# Altium schematic symbol library CHESSOBC_rev1.SCHLIB: 28 symbols
Pins are listed as number, name and electrical type; pins without a type are passive.

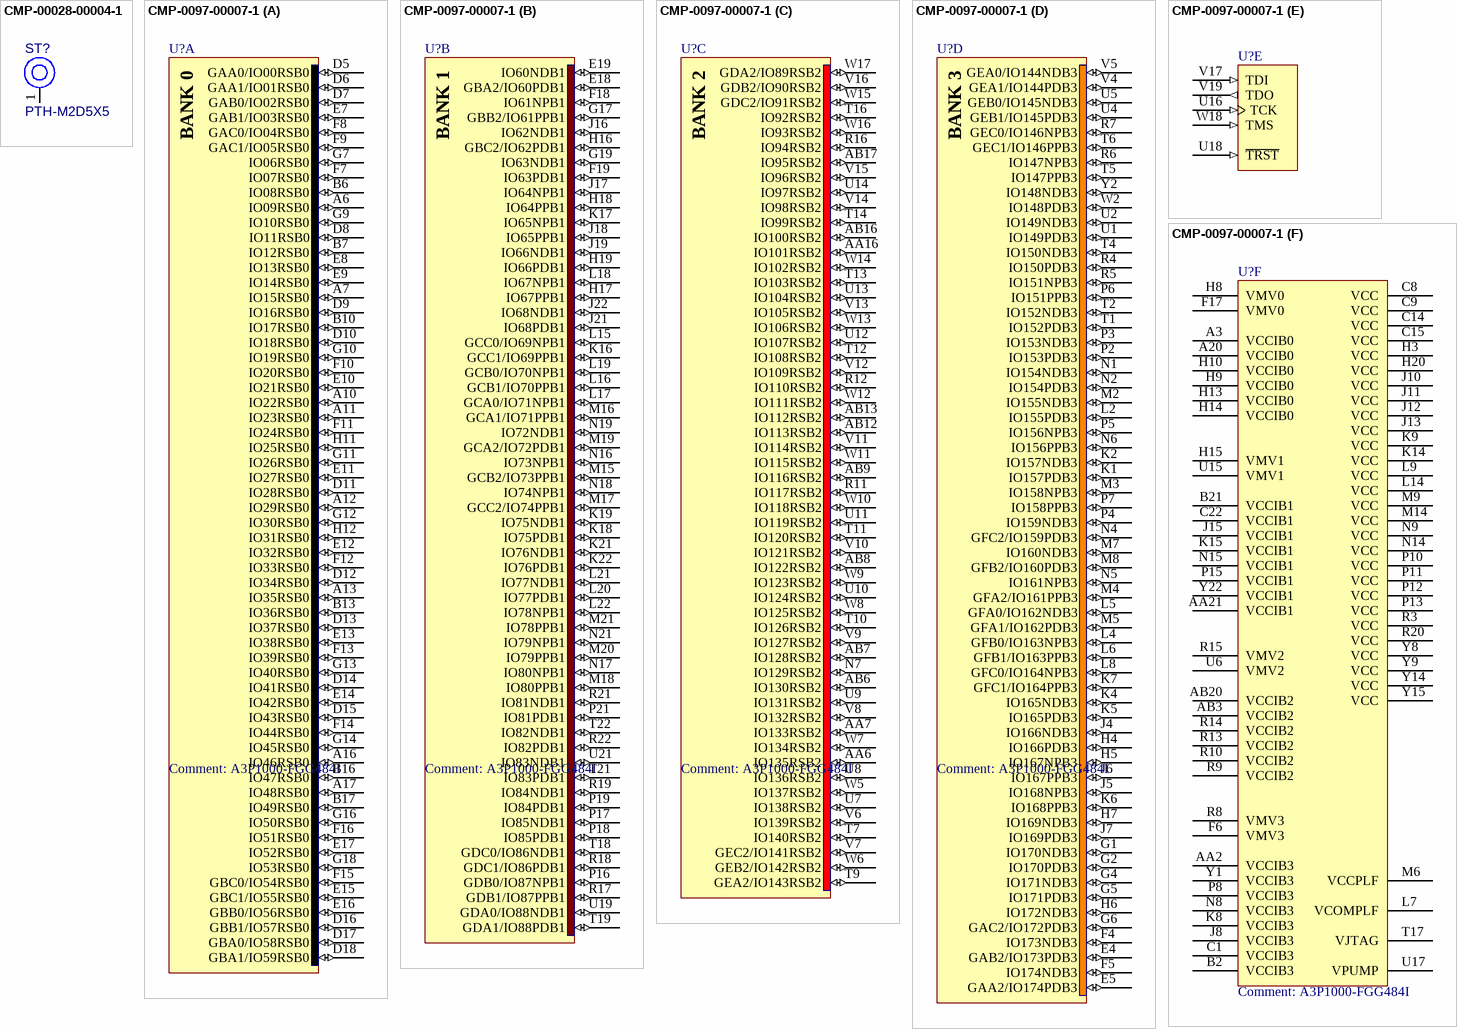
[diagram p0: symbols CMP-00028-00004-1 to CMP-0097-00007-1]

## CMP-00028-00004-1
designator ST?, comment PTH-M2D5X5
M2 PTH (2.5mm), 5mm pad; Pins: 1; Component Type: Mechanical
footprint PTH-M2D5X5
pins: 1 H1

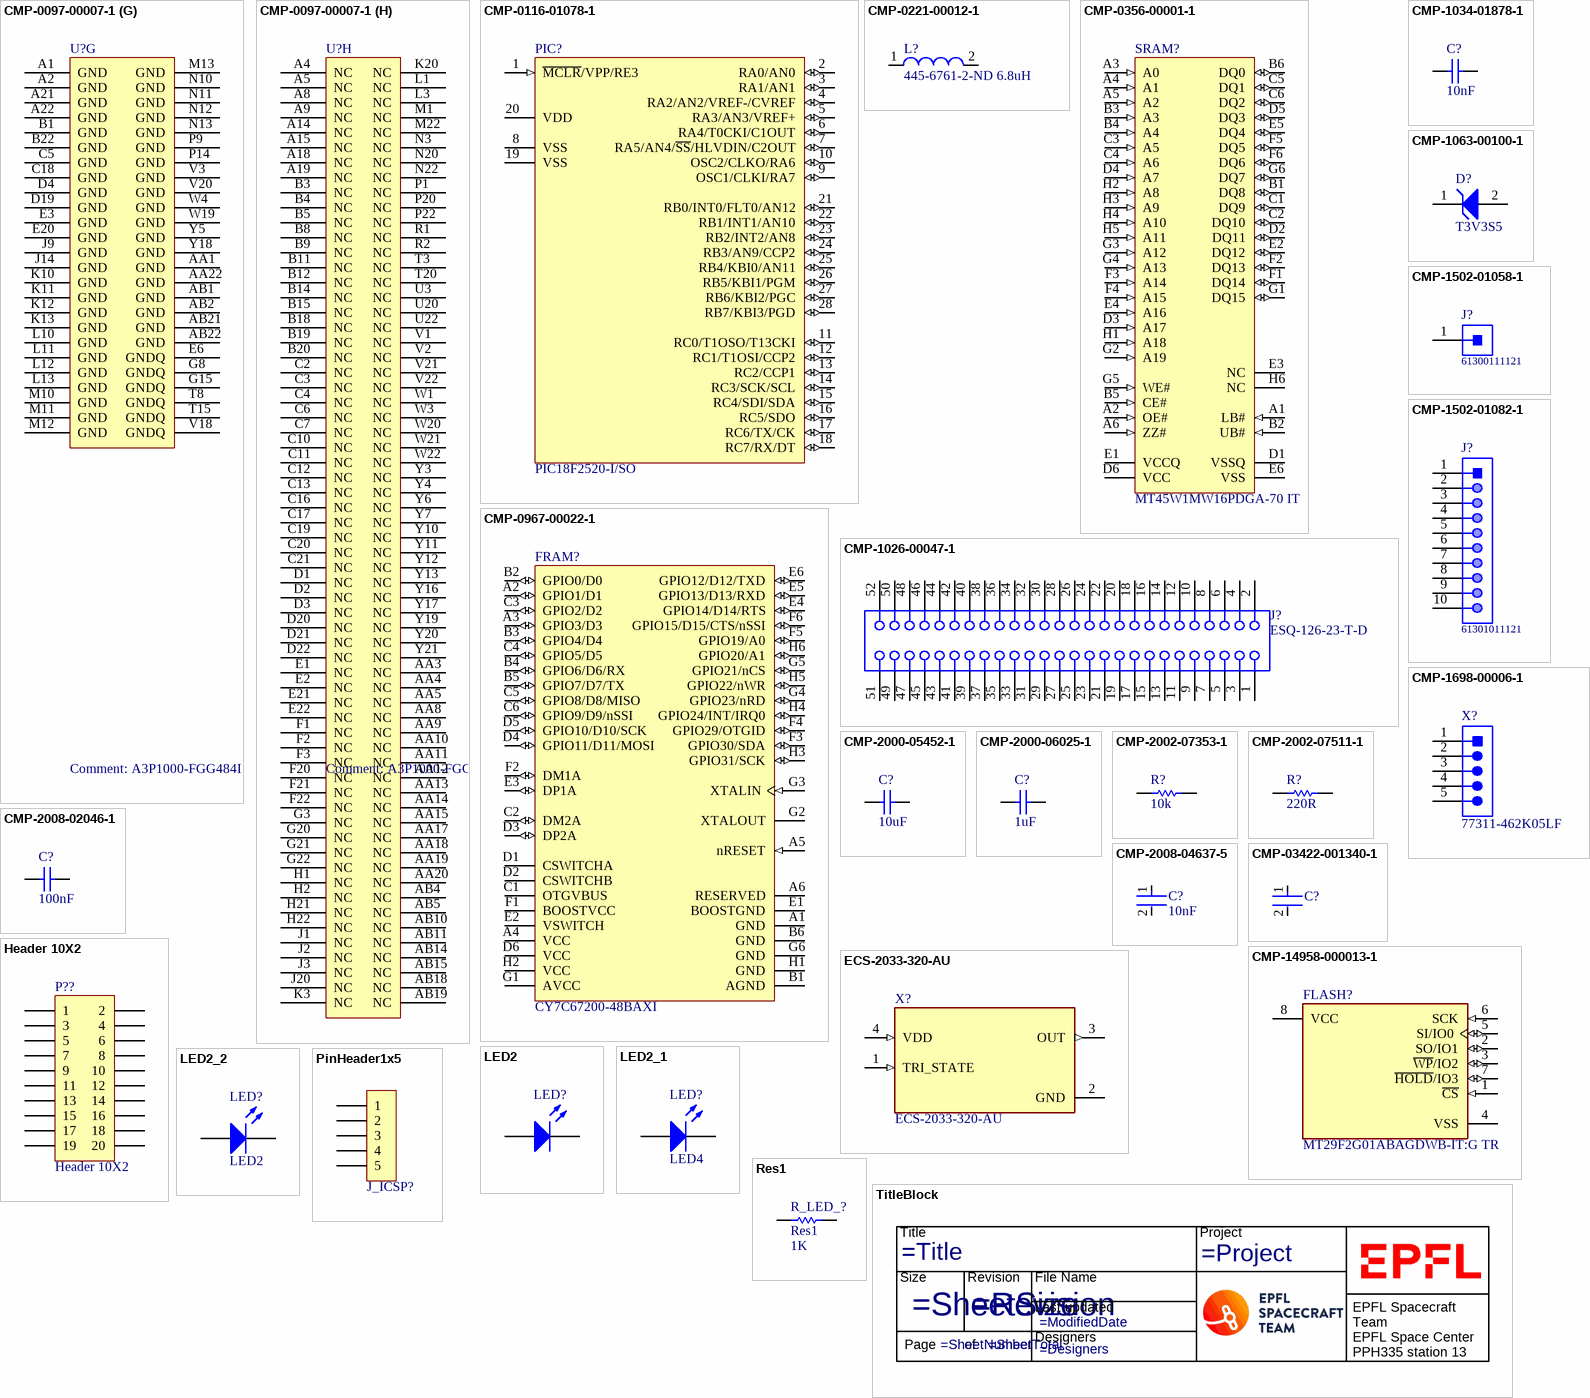
[diagram p1: symbols CMP-0097-00007-1 to TitleBlock]

## CMP-0097-00007-1
designator U?, comment A3P1000-FGG484I
ProASIC3 Flash FPGA, 300 User IOs, 1M System Gates, 484-Ball FBGA; Manufacturer: Actel; Code_JEDEC: MS-034-AAJ-1; PackageDescription: 484-Ball Fine Pitch Plastic Ball Grid Array (FG484) - Fully Populated; DatasheetVersion: v1.3, Oct-2009; PackageReference: FG484; PackageVersion: ver11.2, Nov-2009; Code_IPC: BGA100P22X22-484; Manufacturer Part Number: A3P1000-FGG484I; Supplier 1: Mouser; Supplier Part Number 1: 494-A3P1000-FGG484I
footprint FG484 (BGA, 484-Leads, Body 23x23mm, Pitch 1mm)
part A pins: A6 IO09RSB0 (io), A7 IO15RSB0 (io), A10 IO22RSB0 (io), A11 IO23RSB0 (io), A12 IO29RSB0 (io), A13 IO35RSB0 (io), A16 IO46RSB0 (io), A17 IO48RSB0 (io), B6 IO08RSB0 (io), B7 IO12RSB0 (io), B10 IO17RSB0 (io), B13 IO36RSB0 (io), B16 IO47RSB0 (io), B17 IO49RSB0 (io), D5 GAA0/IO00RSB0 (io), D6 GAA1/IO01RSB0 (io), D7 GAB0/IO02RSB0 (io), D8 IO11RSB0 (io), D9 IO16RSB0 (io), D10 IO18RSB0 (io), D11 IO28RSB0 (io), D12 IO34RSB0 (io), D13 IO37RSB0 (io), D14 IO41RSB0 (io), D15 IO43RSB0 (io), D16 GBB1/IO57RSB0 (io), D17 GBA0/IO58RSB0 (io), D18 GBA1/IO59RSB0 (io), E7 GAB1/IO03RSB0 (io), E8 IO13RSB0 (io), E9 IO14RSB0 (io), E10 IO21RSB0 (io), E11 IO27RSB0 (io), E12 IO32RSB0 (io), E13 IO38RSB0 (io), E14 IO42RSB0 (io), E15 GBC1/IO55RSB0 (io), E16 GBB0/IO56RSB0 (io), E17 IO52RSB0 (io), F7 IO07RSB0 (io), F8 GAC0/IO04RSB0 (io), F9 GAC1/IO05RSB0 (io), F10 IO20RSB0 (io), F11 IO24RSB0 (io), F12 IO33RSB0 (io), F13 IO39RSB0 (io), F14 IO44RSB0 (io), F15 GBC0/IO54RSB0 (io), F16 IO51RSB0 (io), G7 IO06RSB0 (io), G9 IO10RSB0 (io), G10 IO19RSB0 (io), G11 IO26RSB0 (io), G12 IO30RSB0 (io), G13 IO40RSB0 (io), G14 IO45RSB0 (io), G16 IO50RSB0 (io), G18 IO53RSB0 (io), H11 IO25RSB0 (io), H12 IO31RSB0 (io)
part B pins: E18 GBA2/IO60PDB1 (io), E19 IO60NDB1 (io), F18 IO61NPB1 (io), F19 IO63PDB1 (io), G17 GBB2/IO61PPB1 (io), G19 IO63NDB1 (io), H16 GBC2/IO62PDB1 (io), H17 IO67PPB1 (io), H18 IO64PPB1 (io), H19 IO66PDB1 (io), J16 IO62NDB1 (io), J17 IO64NPB1 (io), J18 IO65PPB1 (io), J19 IO66NDB1 (io), J21 IO68PDB1 (io), J22 IO68NDB1 (io), K16 GCC1/IO69PPB1 (io), K17 IO65NPB1 (io), K18 IO75PDB1 (io), K19 IO75NDB1 (io), K21 IO76NDB1 (io), K22 IO76PDB1 (io), L15 GCC0/IO69NPB1 (io), L16 GCB1/IO70PPB1 (io), L17 GCA0/IO71NPB1 (io), L18 IO67NPB1 (io), L19 GCB0/IO70NPB1 (io), L20 IO77PDB1 (io), L21 IO77NDB1 (io), L22 IO78NPB1 (io), M15 GCB2/IO73PPB1 (io), M16 GCA1/IO71PPB1 (io), M17 GCC2/IO74PPB1 (io), M18 IO80PPB1 (io), M19 GCA2/IO72PDB1 (io), M20 IO79PPB1 (io), M21 IO78PPB1 (io), N16 IO73NPB1 (io), N17 IO80NPB1 (io), N18 IO74NPB1 (io), N19 IO72NDB1 (io), N21 IO79NPB1 (io), P16 GDB0/IO87NPB1 (io), P17 IO85NDB1 (io), P18 IO85PDB1 (io), P19 IO84PDB1 (io), P21 IO81PDB1 (io), R17 GDB1/IO87PPB1 (io), R18 GDC1/IO86PDB1 (io), R19 IO84NDB1 (io), R21 IO81NDB1 (io), R22 IO82PDB1 (io), T18 GDC0/IO86NDB1 (io), T19 GDA1/IO88PDB1 (io), T21 IO83PDB1 (io), T22 IO82NDB1 (io), U19 GDA0/IO88NDB1 (io), U21 IO83NDB1 (io)
part C pins: AA6 IO135RSB2 (io), AA7 IO133RSB2 (io), AA16 IO101RSB2 (io), AB6 IO130RSB2 (io), AB7 IO128RSB2 (io), AB8 IO122RSB2 (io), AB9 IO116RSB2 (io), AB12 IO113RSB2 (io), AB13 IO112RSB2 (io), AB16 IO100RSB2 (io), AB17 IO95RSB2 (io), N7 IO129RSB2 (io), R11 IO117RSB2 (io), R12 IO110RSB2 (io), R16 IO94RSB2 (io), T7 IO140RSB2 (io), T9 GEA2/IO143RSB2 (io), T10 IO126RSB2 (io), T11 IO120RSB2 (io), T12 IO108RSB2 (io), T13 IO103RSB2 (io), T14 IO99RSB2 (io), T16 IO92RSB2 (io), U7 IO138RSB2 (io), U8 IO136RSB2 (io), U9 IO131RSB2 (io), U10 IO124RSB2 (io), U11 IO119RSB2 (io), U12 IO107RSB2 (io), U13 IO104RSB2 (io), U14 IO97RSB2 (io), V6 IO139RSB2 (io), V7 GEC2/IO141RSB2 (io), V8 IO132RSB2 (io), V9 IO127RSB2 (io), V10 IO121RSB2 (io), V11 IO114RSB2 (io), V12 IO109RSB2 (io), V13 IO105RSB2 (io), V14 IO98RSB2 (io), V15 IO96RSB2 (io), V16 GDB2/IO90RSB2 (io), W5 IO137RSB2 (io), W6 GEB2/IO142RSB2 (io), W7 IO134RSB2 (io), W8 IO125RSB2 (io), W9 IO123RSB2 (io), W10 IO118RSB2 (io), W11 IO115RSB2 (io), W12 IO111RSB2 (io), W13 IO106RSB2 (io), W14 IO102RSB2 (io), W15 GDC2/IO91RSB2 (io), W16 IO93RSB2 (io), W17 GDA2/IO89RSB2 (io)
part D pins: E4 GAB2/IO173PDB3 (io), E5 GAA2/IO174PDB3 (io), F4 IO173NDB3 (io), F5 IO174NDB3 (io), G1 IO170NDB3 (io), G2 IO170PDB3 (io), G4 IO171NDB3 (io), G5 IO171PDB3 (io), G6 GAC2/IO172PDB3 (io), H4 IO166PDB3 (io), H5 IO167NPB3 (io), H6 IO172NDB3 (io), H7 IO169NDB3 (io), J4 IO166NDB3 (io), J5 IO168NPB3 (io), J6 IO167PPB3 (io), J7 IO169PDB3 (io), K1 IO157PDB3 (io), K2 IO157NDB3 (io), K4 IO165NDB3 (io), K5 IO165PDB3 (io), K6 IO168PPB3 (io), K7 GFC1/IO164PPB3 (io), L2 IO155PDB3 (io), L4 GFB0/IO163NPB3 (io), L5 GFA0/IO162NDB3 (io), L6 GFB1/IO163PPB3 (io), L8 GFC0/IO164NPB3 (io), M2 IO155NDB3 (io), M3 IO158NPB3 (io), M4 GFA2/IO161PPB3 (io), M5 GFA1/IO162PDB3 (io), M7 IO160NDB3 (io), M8 GFB2/IO160PDB3 (io), N1 IO154NDB3 (io), N2 IO154PDB3 (io), N4 GFC2/IO159PDB3 (io), N5 IO161NPB3 (io), N6 IO156PPB3 (io), P2 IO153PDB3 (io), P3 IO153NDB3 (io), P4 IO159NDB3 (io), P5 IO156NPB3 (io), P6 IO151PPB3 (io), P7 IO158PPB3 (io), R4 IO150PDB3 (io), R5 IO151NPB3 (io), R6 IO147NPB3 (io), R7 GEC0/IO146NPB3 (io), T1 IO152PDB3 (io), T2 IO152NDB3 (io), T4 IO150NDB3 (io), T5 IO147PPB3 (io), T6 GEC1/IO146PPB3 (io), U1 IO149PDB3 (io), U2 IO149NDB3 (io), U4 GEB1/IO145PDB3 (io), U5 GEB0/IO145NDB3 (io), V4 GEA1/IO144PDB3 (io), V5 GEA0/IO144NDB3 (io), W2 IO148PDB3 (io), Y2 IO148NDB3 (io)
part E pins: U16 TCK (in), U18 ~{TRST} (in), V17 TDI (in), V19 TDO (out), W18 TMS (in)
part F pins: A3 VCCIB0 (power), A20 VCCIB0 (power), AA2 VCCIB3 (power), AA21 VCCIB1 (power), AB3 VCCIB2 (power), AB20 VCCIB2 (power), B2 VCCIB3 (power), B21 VCCIB1 (power), C1 VCCIB3 (power), C8 VCC (power), C9 VCC (power), C14 VCC (power), C15 VCC (power), C22 VCCIB1 (power), F6 VMV3 (power), F17 VMV0 (power), H3 VCC (power), H8 VMV0 (power), H9 VCCIB0 (power), H10 VCCIB0 (power), H13 VCCIB0 (power), H14 VCCIB0 (power), H15 VMV1 (power), H20 VCC (power), J8 VCCIB3 (power), J10 VCC (power), J11 VCC (power), J12 VCC (power), J13 VCC (power), J15 VCCIB1 (power), K8 VCCIB3 (power), K9 VCC (power), K14 VCC (power), K15 VCCIB1 (power), L7 VCOMPLF (power), L9 VCC (power), L14 VCC (power), M6 VCCPLF (power), M9 VCC (power), M14 VCC (power), N8 VCCIB3 (power), N9 VCC (power), N14 VCC (power), N15 VCCIB1 (power), P8 VCCIB3 (power), P10 VCC (power), P11 VCC (power), P12 VCC (power), P13 VCC (power), P15 VCCIB1 (power), R3 VCC (power), R8 VMV3 (power), R9 VCCIB2 (power), R10 VCCIB2 (power), R13 VCCIB2 (power), R14 VCCIB2 (power), R15 VMV2 (power), R20 VCC (power), T17 VJTAG (power), U6 VMV2 (power), U15 VMV1 (power), U17 VPUMP (power), Y1 VCCIB3 (power), Y8 VCC (power), Y9 VCC (power), Y14 VCC (power), Y15 VCC (power), Y22 VCCIB1 (power)
part G pins: A1 GND (power), A2 GND (power), A21 GND (power), A22 GND (power), AA1 GND (power), AA22 GND (power), AB1 GND (power), AB2 GND (power), AB21 GND (power), AB22 GND (power), B1 GND (power), B22 GND (power), C5 GND (power), C18 GND (power), D4 GND (power), D19 GND (power), E3 GND (power), E6 GNDQ (power), E20 GND (power), G8 GNDQ (power), G15 GNDQ (power), J9 GND (power), J14 GND (power), K10 GND (power), K11 GND (power), K12 GND (power), K13 GND (power), L10 GND (power), L11 GND (power), L12 GND (power), L13 GND (power), M10 GND (power), M11 GND (power), M12 GND (power), M13 GND (power), N10 GND (power), N11 GND (power), N12 GND (power), N13 GND (power), P9 GND (power), P14 GND (power), T8 GNDQ (power), T15 GNDQ (power), V3 GND (power), V18 GNDQ (power), V20 GND (power), W4 GND (power), W19 GND (power), Y5 GND (power), Y18 GND (power)
part H pins: A4 NC, A5 NC, A8 NC, A9 NC, A14 NC, A15 NC, A18 NC, A19 NC, AA3 NC, AA4 NC, AA5 NC, AA8 NC, AA9 NC, AA10 NC, AA11 NC, AA12 NC, AA13 NC, AA14 NC, AA15 NC, AA17 NC, AA18 NC, AA19 NC, AA20 NC, AB4 NC, AB5 NC, AB10 NC, AB11 NC, AB14 NC, AB15 NC, AB18 NC, AB19 NC, B3 NC, B4 NC, B5 NC, B8 NC, B9 NC, B11 NC, B12 NC, B14 NC, B15 NC, B18 NC, B19 NC, B20 NC, C2 NC, C3 NC, C4 NC, C6 NC, C7 NC, C10 NC, C11 NC, C12 NC, C13 NC, C16 NC, C17 NC, C19 NC, C20 NC, C21 NC, D1 NC, D2 NC, D3 NC, D20 NC, D21 NC, D22 NC, E1 NC, E2 NC, E21 NC, E22 NC, F1 NC, F2 NC, F3 NC, F20 NC, F21 NC, F22 NC, G3 NC, G20 NC, G21 NC, G22 NC, H1 NC, H2 NC, H21 NC, H22 NC, J1 NC, J2 NC, J3 NC, J20 NC, K3 NC, K20 NC, L1 NC, L3 NC, M1 NC, M22 NC, N3 NC, N20 NC, N22 NC, P1 NC, P20 NC, P22 NC, R1 NC, R2 NC, T3 NC, T20 NC, U3 NC, U20 NC, U22 NC, V1 NC, V2 NC, V21 NC, V22 NC, W1 NC, W3 NC, W20 NC, W21 NC, W22 NC, Y3 NC, Y4 NC, Y6 NC, Y7 NC, Y10 NC, Y11 NC, Y12 NC, Y13 NC, Y16 NC, Y17 NC, Y19 NC, Y20 NC, Y21 NC
part A text: BANK 0
part B text: BANK 1
part C text: BANK 2
part D text: BANK 3

## CMP-0116-01078-1
designator PIC?, comment PIC18F2520-I/SO
Enhanced Flash Microcontroller with 10-Bit A/D and nanoWatt Technology, 32K Flash, 28-Pin SOIC, Industrial Temperature Range; Manufacturer: Microchip; Code_JEDEC: MS-013; PackageReference: SOIC-SO28; PackageVersion: revBB, Aug-2009; DatasheetVersion: revE, Oct-2008; PackageDescription: 28-Lead Plastic Small Outline (SO) - Wide 7.50mm Body [SOIC]; Manufacturer Part Number: PIC18F2520-I/SO
footprint SOIC-SO28_L (SOIC, 28-Leads, Body 17.9x7.5mm, Pitch 1.27mm, IPC High Density)
footprint SOIC-SO28_M (SOIC, 28-Leads, Body 17.9x7.5mm, Pitch 1.27mm, IPC Low Density)
footprint SOIC-SO28_N (SOIC, 28-Leads, Body 17.9x7.5mm, Pitch 1.27mm, IPC Medium Density)
pins: 1 ~{MCLR}/VPP/RE3 (in), 2 RA0/AN0 (io), 3 RA1/AN1 (io), 4 RA2/AN2/VREF-/CVREF (io), 5 RA3/AN3/VREF+ (io), 6 RA4/T0CKI/C1OUT (io), 7 RA5/AN4/~{SS}/HLVDIN/C2OUT (io), 8 VSS (power), 9 OSC1/CLKI/RA7 (io), 10 OSC2/CLKO/RA6 (io), 11 RC0/T1OSO/T13CKI (io), 12 RC1/T1OSI/CCP2 (io), 13 RC2/CCP1 (io), 14 RC3/SCK/SCL (io), 15 RC4/SDI/SDA (io), 16 RC5/SDO (io), 17 RC6/TX/CK (io), 18 RC7/RX/DT (io), 19 VSS (power), 20 VDD (power), 21 RB0/INT0/FLT0/AN12 (io), 22 RB1/INT1/AN10 (io), 23 RB2/INT2/AN8 (io), 24 RB3/AN9/CCP2 (io), 25 RB4/KBI0/AN11 (io), 26 RB5/KBI1/PGM (io), 27 RB6/KBI2/PGC (io), 28 RB7/KBI3/PGD (io)

## CMP-0221-00012-1
designator L?, comment 445-6761-2-ND 6.8uH
SMD-Multilayer Inductor WE-MI, L = 1.00 µH; Manufacturer: Wurth Electronics; Manufacturer Part Number: 7447905; Inductance: 1.00 ÂµH; ComponentLink2URL: http://www.we-online.de/katalog/media/pdf/7447905.pdf; ComponentLink1Description: Manufacturer Link; ComponentLink2Description: Datasheet; DatasheetVersion: ver 4, Oct-2004; PackageVersion: 2005; PackageReference: SMD-0805; ComponentLink1URL: http://www.we-online.com; PackageDescription: Chip Inductor, 2-Leads, Body 2.0 x 1.2 mm
footprint SMD-0805 (Chip Inductor, 2-Leads, Body 2.0x1.2x1.1 mm)
pins: 1, 2

## CMP-0356-00001-1
designator SRAM?, comment MT45W1MW16PDGA-70 IT
16Mb PSRAM Celluar RAM, 1Mb x 16, 70ns, 1.7V - 3.3V, -40 to 85 degC, 48-Ball VFBGA, Pb-Free; Manufacturer: Micron; Manufacturer: Micron Technology; Op. Temp.: -40C to +85CÂ; I/O Voltage: 1.7V-3.3VÂ; Density: 16MbÂ; Access Time: 70nsÂ; Read/Write Mode: Async/PageÂ; Core Voltage: 1.7V-1.95VÂ; PackageDescription: 48-Ball Very Thin Profile Fine-Pitch Ball Grid Array, 8 x 6 mm, Pitch 0.75 mm; Depth: 1MbÂ; ComponentLink1Description: Manufacturer URL; PackageReference: MICT-GA-48; ComponentLink1URL: http://www.micron.com/; RoHS: GreenÂ; PackageVersion: Rev.F; Width: x16Â; Pin Count: 48-ballÂ; ComponentLink2Description: Datasheet; Part Status: ProductionÂ; ComponentLink2URL: http://www.micron.com/~/media/Documents/Products/Data%20Sheet/DRAM/Mobile%20DRAM/PSRAM/16mb_asyncpage_cr1_0_p23z.pdf; PartNumber: MT45W1MW16PDGA-70 IT; Package: VFBGAÂ; ComponentLink3Description: Package Specification; DatasheetVersion: Rev. F; Mounting Technology: Surface Mount; ComponentLink3URL: http://www.micron.com/~/media/Documents/Products/Data%20Sheet/DRAM/Mobile%20DRAM/PSRAM/16mb_asyncpage_cr1_0_p23z.pdf; Manufacturer Part Number: MT45W1MW16PDGA-70IT
footprint MICT-GA-48 (BGA, 48-Balls, Body 8x6mm, Pitch 0.75mm)
pins: A1 LB# (in) "Lower byte enable: DQ[7:0]", A2 OE# (in) "Output enable: Enables the output buffers when LOW. When OE# is HIGH, the output buffers are disabled.", A3 A0 (in) "Address inputs: Inputs for the address accessed during READ or WRITE operations.The address lines are also used to define the value to be loaded into the CR.", A4 A1 (in) "Address inputs: Inputs for the address accessed during READ or WRITE operations.The address lines are also used to define the value to be loaded into the CR.", A5 A2 (in) "Address inputs: Inputs for the address accessed during READ or WRITE operations.The address lines are also used to define the value to be loaded into the CR.", A6 ZZ# (in) "Sleep enable: When ZZ# is LOW, the CR can be loaded or the device can enter one of two low-power modes (DPD or PAR).", B1 DQ8 (io) "Data inputs/outputs.", B2 UB# (in) "Upper byte enable: DQ[15:8]", B3 A3 (in) "Address inputs: Inputs for the address accessed during READ or WRITE operations.The address lines are also used to define the value to be loaded into the CR.", B4 A4 (in) "Address inputs: Inputs for the address accessed during READ or WRITE operations.The address lines are also used to define the value to be loaded into the CR.", B5 CE# (in) "Chip enable: Activates the device when LOW. When CE# is HIGH, the device is disabled and goes into standby power mode.", B6 DQ0 (io) "Data inputs/outputs.", C1 DQ9 (io) "Data inputs/outputs.", C2 DQ10 (io) "Data inputs/outputs.", C3 A5 (in) "Address inputs: Inputs for the address accessed during READ or WRITE operations.The address lines are also used to define the value to be loaded into the CR.", C4 A6 (in) "Address inputs: Inputs for the address accessed during READ or WRITE operations.The address lines are also used to define the value to be loaded into the CR.", C5 DQ1 (io) "Data inputs/outputs.", C6 DQ2 (io) "Data inputs/outputs.", D1 VSSQ (power) "VSSQ must be connected to ground.", D2 DQ11 (io) "Data inputs/outputs.", D3 A17 (in) "Address inputs: Inputs for the address accessed during READ or WRITE operations.The address lines are also used to define the value to be loaded into the CR.", D4 A7 (in) "Address inputs: Inputs for the address accessed during READ or WRITE operations.The address lines are also used to define the value to be loaded into the CR.", D5 DQ3 (io) "Data inputs/outputs.", D6 VCC (power) "Device power supply: (1.7V-1.95V) Power supply for device core operation.", E1 VCCQ (power) "I/O power supply: (1.7V-3.6V) Power supply for input/output buffers.", E2 DQ12 (io) "Data inputs/outputs.", E3 NC "Not internally connected.", E4 A16 (in) "Address inputs: Inputs for the address accessed during READ or WRITE operations.The address lines are also used to define the value to be loaded into the CR.", E5 DQ4 (io) "Data inputs/outputs.", E6 VSS (power) "VSS must be connected to ground.", F1 DQ14 (io) "Data inputs/outputs.", F2 DQ13 (io) "Data inputs/outputs.", F3 A14 (in) "Address inputs: Inputs for the address accessed during READ or WRITE operations.The address lines are also used to define the value to be loaded into the CR.", F4 A15 (in) "Address inputs: Inputs for the address accessed during READ or WRITE operations.The address lines are also used to define the value to be loaded into the CR.", F5 DQ5 (io) "Data inputs/outputs.", F6 DQ6 (io) "Data inputs/outputs.", G1 DQ15 (io) "Data inputs/outputs.", G2 A19 (in) "Address inputs: Inputs for the address accessed during READ or WRITE operations.The address lines are also used to define the value to be loaded into the CR.", G3 A12 (in) "Address inputs: Inputs for the address accessed during READ or WRITE operations.The address lines are also used to define the value to be loaded into the CR.", G4 A13 (in) "Address inputs: Inputs for the address accessed during READ or WRITE operations.The address lines are also used to define the value to be loaded into the CR.", G5 WE# (in) "Write enable: Enables WRITE operations when LOW.", G6 DQ7 (io) "Data inputs/outputs.", H1 A18 (in) "Address inputs: Inputs for the address accessed during READ or WRITE operations.The address lines are also used to define the value to be loaded into the CR.", H2 A8 (in) "Address inputs: Inputs for the address accessed during READ or WRITE operations.The address lines are also used to define the value to be loaded into the CR.", H3 A9 (in) "Address inputs: Inputs for the address accessed during READ or WRITE operations.The address lines are also used to define the value to be loaded into the CR.", H4 A10 (in) "Address inputs: Inputs for the address accessed during READ or WRITE operations.The address lines are also used to define the value to be loaded into the CR.", H5 A11 (in) "Address inputs: Inputs for the address accessed during READ or WRITE operations.The address lines are also used to define the value to be loaded into the CR.", H6 NC "Not internally connected."

## CMP-0967-00022-1
designator FRAM?, comment CY7C67200-48BAXI
EZ-OTG(TM) Programmable USB On-The-Go Host / Peripheral Controller, 16 KB, 25 I/Os, 2.7 to 3.6 V, -40 to 85 degC, 48-Pin FBGA (BAX48), Tray; Manufacturer: Cypress; Memory Architecture: ROM/RAM; No. of I/Os: 25; Max. Operating Voltage (V): 3.6; Min. Operating Voltage (V): 2.7; Memory Size (KB): 16; ComponentLink3URL: http://www.cypress.com/?docID=1012; ComponentLink2Description: Datasheet; PartNumber: CY7C67200-48BAXI; PackageVersion: Rev. *F, 09/2005; Min. Operating Temp. (degreesC): -40; ComponentLink1Description: Manufacturer URL; PackageReference: BAX48; DatasheetVersion: Rev. *J; ComponentLink2URL: http://www.cypress.com/?docID=45275; Packing: Tray; Mounting Technology: Surface Mount; Max. Operating Temp. (degreesC): 85; PackageDescription: 48-Ball Fine-Pitch Ball Grid Array, Body 7 x 7 mm, Pitch 0.75 mm; RoHS: Pb-Free; ComponentLink3Description: Package Specification; ComponentLink1URL: http://www.cypress.com/; Manufacturer Part Number: CY7C67200-48BAXI
footprint CYP-BAX48 (BGA, 48-Balls, Body 7x7mm, Pitch 0.75mm)
pins: A1 GND (power) "Main Ground", A2 GPIO1/D1 (io), A3 GPIO3/D3 (io), A4 VCC (power) "Main VCC", A5 nRESET (in) "Reset", A6 RESERVED (power) "Tie to Gnd for normal operation.", B1 AGND (power) "USB Ground", B2 GPIO0/D0 (io), B3 GPIO4/D4 (io), B4 GPIO6/D6/RX (io), B5 GPIO7/D7/TX (io), B6 GND (power) "Main Ground", C1 OTGVBUS (power) "USB OTG Vbus", C2 DM2A (io) "USB Port 2A D-", C3 GPIO2/D2 (io), C4 GPIO5/D5 (io), C5 GPIO8/D8/MISO (io), C6 GPIO9/D9/nSSI (io), D1 CSWITCHA (power) "Charge Pump Capacitor", D2 CSWITCHB (power) "Charge Pump Capacitor", D3 DP2A (io) "USB Port 2A D+", D4 GPIO11/D11/MOSI (io), D5 GPIO10/D10/SCK (io), D6 VCC (power) "Main VCC", E1 BOOSTGND (power) "Booster Ground", E2 VSWITCH (power) "Booster Switching Output", E3 DP1A (io) "USB Port 1A D+", E4 GPIO14/D14/RTS (io), E5 GPIO13/D13/RXD (io), E6 GPIO12/D12/TXD (io), F1 BOOSTVCC (power) "Booster Power Input: 2.7 V to 3.6 V", F2 DM1A (io) "USB Port 1A D-", F3 GPIO30/SDA (io), F4 GPIO29/OTGID (io), F5 GPIO19/A0 (io), F6 GPIO15/D15/CTS/nSSI (io), G1 AVCC (power) "USB Power", G2 XTALOUT "Crystal output. Leave floating if direct clock source is used.", G3 XTALIN (in) "Crystal Input or Direct Clock Input", G4 GPIO23/nRD (io), G5 GPIO21/nCS (io), G6 GND (power) "Main Ground", H1 GND (power) "Main Ground", H2 VCC (power) "Main VCC", H3 GPIO31/SCK (io), H4 GPIO24/INT/IRQ0 (io), H5 GPIO22/nWR (io), H6 GPIO20/A1 (io)

## CMP-1026-00047-1
designator J?, comment ESQ-126-23-T-D
PC/104(TM) Elevated Socket Strip, Through-hole, Vertical, -55 to 105 degC, 2.54 mm Pitch, 52-Pin, Female, RoHS; Manufacturer: Samtec; Pitch: 2.54 mm; ComponentLink1Description: Manufacturer URL; RoHS: True; PartNumber: ESQ-126-23-T-D; DatasheetVersion: F-214; ComponentLink3Description: Package Specification; Orientation: Vertical; Temperature Range: -55 to 105 degC; ComponentLink1URL: http://www.samtec.com; ComponentLink3URL: http://www.samtec.com/documents/webfiles/cpdf/ESQ-1XX-XX-X-X-XXX-XX-X-XX-MKT.pdf; PackageReference: ESQ-126-23-X-D; Mounting Technology: Through-hole; PackageDescription: ESQ Strip ASM; ComponentLink2Description: Datasheet; PackageVersion: BZ, 9/1998; ComponentLink2URL: http://www.samtec.com/documents/webfiles/pdf/ESQ_TH.PDF; Manufacturer Part Number: ESQ-126-23-T-D
footprint SMTC-ESQ-126-23-X-D (Elevated Socket, 2x26 Pins, Vertical, 2.54mm Pitch, Female)
pins: 1, 2, 3, 4, 5, 6, 7, 8, 9, 10, 11, 12, 13, 14, 15, 16, 17, 18, 19, 20, 21, 22, 23, 24, 25, 26, 27, 28, 29, 30, 31, 32, 33, 34, 35, 36, 37, 38, 39, 40, 41, 42, 43, 44, 45, 46, 47, 48, 49, 50, 51, 52

## CMP-1034-01878-1
designator C?, comment 10nF
CAP 10nF 16V -20% to +80% 0402 (1005 Metric) Thickness 0.6mm SMD; Manufacturer: Yageo; Manufacturer Part Number: CC0402ZRY5V7BB103; Manufacturer: Vishay Vitramon; Manufacturer Part Number: VJ0402V103ZXJPW1BC; Manufacturer: Vishay; Manufacturer Part Number: VJ0402V103ZXJCW1BC; Case-Metric: 1005; Case-EIA: 0402; Rated Voltage: 16 V; Max Thickness: 0.6 mm; Tolerance: -20% to +80%; Value: 10nF; Technology: SMT
footprint CAPC0402(1005)60_M (Chip Capacitor, Body 1.0x0.5mm, Height 0.6mm, IPC Low Density)
footprint CAPC0402(1005)60_N (Chip Capacitor, Body 1.0x0.5mm, Height 0.6mm, IPC Medium Density)
footprint CAPC0402(1005)60_L (Chip Capacitor, Body 1.0x0.5mm, Height 0.6mm, IPC High Density)
pins: 1, 2
1 alternate drawing of the same symbol

## CMP-1063-00100-1
designator D?, comment T3V3S5
Transient Voltage Suppressor, Micro-Packaged Diode for ESD Protection, 2-Pin SOD-523, Pb-Free, Tape and Reel; Manufacturer: On Semiconductor; PartNumber: ESD5Z7.0T1G; VRWM Max (V): 7; IR Max (uA): 0.01; Direction: Unidirectional; PPK Max (W): 200; Number of Lines: 1; V(BR) Min (V): 7.5; PackageVersion: Rev. E, 09/2010; PackageReference: SOD-523-2-502-01; ComponentLink3Description: Package Specification; ComponentLink3URL: http://www.onsemi.com/pub_link/Collateral/502-01.PDF; PackageDescription: 2-Pin SOD, Body 1.2 x 0.8 mm; Packing: Tape and Reel; RoHS: Pb-Free; Mounting Technology: Surface Mount; DatasheetVersion: Rev. 10; ComponentLink2URL: http://www.onsemi.cn/pub_link/Collateral/ESD5Z2.5T1-D.PDF; ComponentLink1Description: Manufacturer URL; ComponentLink1URL: http://www.onsemi.com/; ComponentLink2Description: Datasheet; Manufacturer: ON Semiconductor; Manufacturer Part Number: ESD5Z7.0T1G
footprint ONSC-SOD-523-2-502-01_V (SOD, 2-Leads, Body 1.2x0.8mm)
pins: 1 K, 2 A

## CMP-1502-01058-1
designator J?, comment 61300111121
THT Vertical Pin Header WR-PHD, Pitch 2.54 mm, Single Row, 1 pins; Manufacturer: Wurth Elektronik; Manufacturer: Wurth Electronics; Gender: Male; Working Voltage: 250VAC; Withstanding Voltage: 500VAC; Pin Number: 1; Contact Resistance: 20mOhm; Rated Current: 3A; Pitch: 2.54mm; Mounting Technology: THT; Datasheet URL: https://katalog.we-online.de/em/datasheet/6130xx11121.pdf; Manufacturer URL: http://www.we-online.de; Operating Temperature: -40to105degC; Publisher: WurthElektronik; Part Number: 61300111121; Row Number: Single; Package Reference: 61300111121; Orientation: Vertical; Packaging: Bag; Manufacturer Part Number: 61300111121
footprint 61300111121 (Pin Header, pitch 2.54 mm, THT, Vertical, single row, 1p)
pins: 1

## CMP-1502-01082-1
designator J?, comment 61301011121
THT Vertical Pin Header WR-PHD, Pitch 2.54 mm, Single Row, 10 pins; Manufacturer: Wurth Elektronik; Manufacturer: Wurth Electronics; Contact Resistance: 20mOhm; Rated Current: 3A; Pitch: 2.54mm; Gender: Male; Pin Number: 10; Working Voltage: 250VAC; Withstanding Voltage: 500VAC; Manufacturer URL: http://www.we-online.de; Operating Temperature: -40to105degC; Datasheet URL: https://katalog.we-online.de/em/datasheet/6130xx11121.pdf; Row Number: Single; Orientation: Vertical; Part Number: 61301011121; Packaging: Bag; Package Reference: 61301011121; Mounting Technology: THT; Publisher: WurthElektronik; Manufacturer Part Number: 61301011121
footprint 61301011121 (Pin Header, pitch 2.54 mm, THT, Vertical, single row, 10p)
pins: 1, 2, 3, 4, 5, 6, 7, 8, 9, 10

## CMP-1698-00006-1
designator X?, comment 77311-462K05LF
Male Header, Pitch 2.54 mm, 1 x 5 Position, Height 16.24 mm, Tail Length 3.05 mm, / -65 to 125 degC, RoHS, Tape and Reel; Manufacturer: Amphenol FCI; Shielding: Shielded; Current Rating: 1 A; Gender: Female; ComponentLink2URL: http://portal.fciconnect.com/Comergent//fci/drawing/77311.pdf; ComponentLink1URL: http://portal.fciconnect.com/; ComponentLink2Description: Datasheet; Max Operating Temperature: 85degC; Package Quantity: 500; PackageDescription: Male Header, Pitch 2.54 mm, 1 x 5 Position, Height 16.24 mm, Tail Length 3.05 mm; ComponentLink1Description: Manufacturer URL; Min Operating Temperature: -25degC; Contact Material: Brass; PackageReference: 77311-5; RoHSCompliant: True; Packaging: Tape and Reel; DatasheetVersion: Rev. CK, 07/2016; Manufacturer Part Number: 77311-462K05LF
footprint FCI-77311-5_V (THD, 5-Leads, Body 12.7x2.4mm, Pitch 2.54mm)
pins: 1 DTR, 2 RXI, 3 TXO, 4 VCC, 5 CTS

## CMP-2000-05452-1
designator C?, comment 10uF
Multilayer Ceramic Chip Capacitor, 10 uF, +/- 10%, 10 V, -55 to 125 degC, 0805 (2012 Metric), RoHS, Tape and Reel; Manufacturer: TDK; PCN Part Number: MLCCPartNumberChange30/Nov/2012; Manufacturer Part Number: C2012X7R1A106K125AC; Capacitance: 10µF; Voltage - Rated: 10V; Product Training Modules: CSeriesGeneralApplicationsSEAT,CCV,andTVCLDesignToolsGuidetoReplacinganElectrolyticCapacitorwithanMLCC; Online Catalog: CSeries,GeneralPurpose; Other Names: 445-6857-6; Temperature Coefficient: X7R; Features: -; Ratings: -; Operating Temperature: -55degC~125degC; RoHS Information: RoHSCertificate-MLCC; Datasheet Version: Mar-15; Package / Case: 0805(2012Metric); Series: C; Mounting Type: SurfaceMount,MLCC; Family: CeramicCapacitors; Height - Seated (Max): -; Manufacturer URL: http://www.tdk.com/; Packaging: Digi-Reel; Tolerance: ±10%; Category: Capacitors; Applications: GeneralPurpose; Standard Package: 1; Size / Dimension: 0.079"Lx0.049"W(2.00mmx1.25mm); Datasheet URL: http://download.siliconexpert.com/pdfs/2015/4/21/15/54/45/779/tdk_/manual/37024850441143360mlcc_commercial_general_en.pdf; Lead Style: -; Lead Spacing: -; Thickness (Max): 0.057"(1.45mm); Package Reference: 805; Package Description: 2-Pin Surface Mount Device, Body 2 x 1.25 mm
footprint CAPC2013X145X20ML20 (Chip Capacitor, 2-Leads, Body 2.20x1.45mm, IPC Low Density)
footprint CAPC2013X145X20NL20 (Chip Capacitor, 2-Leads, Body 2.20x1.45mm, IPC Medium Density)
footprint CAPC2013X145X20LL20 (Chip Capacitor, 2-Leads, Body 2.20x1.45mm, IPC High Density)
pins: 1, 2

## CMP-2000-06025-1
designator C?, comment 1uF
Chip Capacitor, 1 uF, +/- 10%, 50 V, -55 to 85 degC, 0603 (1608 Metric), RoHS, Tape and Reel; Manufacturer: TDK; PCN Part Number: MLCCPartNumberChange30/Nov/2012; Manufacturer Part Number: C1608X5R1H105K080AB; Other Names: 445-7468-6; Online Catalog: CSeries,GeneralPurpose; Capacitance: 1µF; Product Training Modules: CSeriesGeneralApplicationsSEAT,CCV,andTVCLDesignToolsGuidetoReplacinganElectrolyticCapacitorwithanMLCC; Voltage - Rated: 50V; Design Resources: 20WNon-IsolatedBuckLEDDriverUsingPLLNK460KG; Temperature Coefficient: X5R; Series: C; Datasheet Version: 08/2016; Package Description: 2-Pin Surface Mount Device, Body 1.6 x 0.8 mm; Mounting Technology: SurfaceMount; Features: -; Size / Dimension: 0.063"Lx0.031"W(1.60mmx0.80mm); Lead Spacing: -; Operating Temperature: -55°C~85°C; Tolerance: ±10%; Height - Seated (Max): -; Mounting Type: SurfaceMount,MLCC; Ratings: -; Standard Package: 1; Applications: GeneralPurpose; Datasheet URL: https://product.tdk.com/info/en/catalog/datasheets/mlcc_commercial_general_en.pdf; Category: Capacitors; Lead Style: -; Packaging: Digi-Reel®; RoHS Information: RoHSCertificate-MLCC; Package / Case: 0603(1608Metric); Package Reference: 0603; Manufacturer URL: http://www.tdk.com/; Thickness (Max): 0.035"(0.90mm); Family: CeramicCapacitors
footprint CAPC1608X90X20LL10 (Chip Capacitor, 2-Leads, Body 1.70x0.90mm, IPC High Density)
footprint CAPC1608X90X20ML10 (Chip Capacitor, 2-Leads, Body 1.70x0.90mm, IPC Low Density)
footprint CAPC1608X90X20NL10 (Chip Capacitor, 2-Leads, Body 1.70x0.90mm, IPC Medium Density)
pins: 1, 2

## CMP-2002-07353-1
designator R?, comment 10k
Part Number: RC0402FR-0710KL; Manufacturer: Yageo / Phycomp; Manufacturer: Yageo; Manufacturer Part Number: RC0402FR-0710KL
footprint RESC1005X40X25LL05T10 (Chip Resistor, 2-Leads, Body 1.00x0.50mm, IPC High Density)
footprint RESC1005X40X25ML05T10 (Chip Resistor, 2-Leads, Body 1.00x0.50mm, IPC Low Density)
footprint RESC1005X40X25NL05T10 (Chip Resistor, 2-Leads, Body 1.00x0.50mm, IPC Medium Density)
pins: 1, 2
1 alternate drawing of the same symbol

## CMP-2002-07511-1
designator R?, comment 220R
Part Number: RC0402FR-07220RL; Manufacturer: Yageo / Phycomp; Manufacturer: Yageo; Manufacturer Part Number: RC0402FR-07220RL
footprint RESC1005X40X25ML05T10 (Chip Resistor, 2-Leads, Body 1.00x0.50mm, IPC Low Density)
footprint RESC1005X40X25LL05T10 (Chip Resistor, 2-Leads, Body 1.00x0.50mm, IPC High Density)
footprint RESC1005X40X25NL05T10 (Chip Resistor, 2-Leads, Body 1.00x0.50mm, IPC Medium Density)
pins: 1, 2
1 alternate drawing of the same symbol

## CMP-2008-02046-1
designator C?, comment 100nF
Manufacturer: Kemet; Part Number: C0402C104K8PACTU; Manufacturer: KEMET; Manufacturer Part Number: C0402C104K8PACTU
footprint CAPC1005X60X30ML05T10 (Chip Capacitor, 2-Leads, Body 1.00x0.50mm, IPC Low Density)
footprint CAPC1005X60X30NL05T10 (Chip Capacitor, 2-Leads, Body 1.00x0.50mm, IPC Medium Density)
footprint CAPC1005X60X30LL05T10 (Chip Capacitor, 2-Leads, Body 1.00x0.50mm, IPC High Density)
pins: 1, 2
1 alternate drawing of the same symbol

## CMP-2008-04637-5
designator C?, comment 10nF
Chip Multilayer Ceramic Capacitors for General Purpose, 0402, 10000pF, X7R, 15%, 10%, 50V GRM155R71H103KA88D; Manufacturer: Murata; Voltage: 25V; Tolerance: 10%; Mount: Surface Mount; Lead Free: Lead Free; Radiation Hardening: No; Case Code (Imperial): 0402; REACH SVHC: No SVHC; Case/Package: 0402; Dielectric: X7R; Voltage Rating (DC): 50V; Max Operating Temperature: 125°C; Termination: SMD/SMT; Material: Ceramic; Width: 0.02inch; Package Quantity: 1; Voltage Rating: 50V; Thickness: 0.022inch; Packaging: Tape and Reel; Height: 0.5mm; Number of Pins: 2; Case Code (Metric): 1005; Min Operating Temperature: -55°C; Length: 1mm; Capacitance: 10nF; Depth: 0.5mm; Manufacturer Part Number: GRM155R71H103KA88D
footprint FP-GRM155-0_05-IPC_C
footprint FP-GRM155-0_05-IPC_A
footprint FP-GRM155-0_05-IPC_B
footprint FP-GRM155-0_05-MFG
pins: 1, 2

## CMP-03422-001340-1
designator C?, comment CC0402KRX5R6BB334  (value not drawn)
CAP CER 0.33UF 10V X5R 0402; Manufacturer: YAGEO; Automotive Grade: NA; Value: 330 nF; Temperature Coefficient: 30ppm/°C; Material: Ceramic; Tolerance: 0.1; ComponentLink2URL: http://www.yageo.com/documents/recent/UPY-GP_NP0_16V-to-50V_16.pdf; Device Class L2: Capacitors; Voltage Rating: 10 V; ComponentLink2Description: Datasheet; Package: CC0402; Device Class L3: Ceramic Capacitors; Digikey Description: CAP CER 0.33UF 10V X5R 0402; Device Class L1: Passive Components; Footprint Url: http://www.yageo.com/exep/pages/download/literatures/UPY-C_GEN_24.pdf; Temperature Characteristic: X5R; Octopart: https://octopart.com/cc0402krx5r6bb334-yageo-21548561; Automotive: No; Temperature: -55°C to +125°C; Lead Free: Yes; Temperature Range Low: -55°C; Height: 0.55mm; Ipc Land Pattern Name: CAPC10050X50; Category: Cap; Capacitance: 330 nF; Manufacturer Part Number: CC0402KRX5R6BB334; RoHS: TRUE; Mouser Description: 0402 330 nF 10 V ±10 % Tolerance X5R SMT Multilayer Ceramic Capacitor; Temperature Range High: +125°C; Manufacturer: Yageo
footprint FP-CC0402-MFG
footprint FP-CC0402-IPC_C
footprint FP-CC0402-IPC_B
footprint FP-CC0402-IPC_A
pins: 1, 2

## CMP-14958-000013-1
designator FLASH?, comment MT29F2G01ABAGDWB-IT:G TR
IC FLASH 2G SPI 8UPDFN; Manufacturer: Micron Technology; Memory Type: Non-Volatile; Memory Size: 2Gb; Max Operating Temperature: 85°C; Mount: Surface Mount; Number of Pins: 8; Packaging: Tape and Reel; Min Operating Temperature: -40°C; Interface: SPI; Manufacturer Part Number: MT29F2G01ABAGDWB-IT:G TR
footprint FP-WB-IPC_C
footprint FP-WB-IPC_B
footprint FP-WB-IPC_A
pins: 1 ~{CS} (in), 2 SO/IO1 (io), 3 ~{WP}/IO2 (io), 4 VSS (power), 5 SI/IO0 (io), 6 SCK (in), 7 ~{HOLD}/IO3 (io), 8 VCC (power)

## ECS-2033-320-AU
designator X?
Osc Xo 32.000mhz Cmos Smd; MF: ECS International; SnapEDA_Link: https://www.snapeda.com/parts/ECS-2033-320-AU/ECS%20International/view-part/2456319/?ref=snap; MP: ECS-2033-320-AU; Value: *; Digi-Key_Part_Number: XC1864CT-ND; Package: SMD-4 ECS International
footprint OSC_ECS-2033-320-AU
pins: 1 TRI_STATE (in), 2 GND (power), 3 OUT (out), 4 VDD (in)

## Header 10X2
designator P??
Header, 10-Pin, Dual row; LatestRevisionDate: 17-Jul-2002; LatestRevisionNote: Re-released for DXP Platform.; Publisher: Altium Limited
footprint HDR2X10 (Connector; Header; 10x2 Position)
signal-integrity model Connector
pins: 1, 2, 3, 4, 5, 6, 7, 8, 9, 10, 11, 12, 13, 14, 15, 16, 17, 18, 19, 20

## LED2
designator LED?
Typical RED, GREEN, YELLOW, AMBER GaAs LED; Published: 8-Jun-2000; LatestRevisionDate: 17-Jul-2002; LatestRevisionNote: Re-released for DXP Platform.; PackageVersion: Feb-2002; PackageReference: 3.2X1.6X1.1; Publisher: Altium Limited; PackageDescription: SM LED; 2 Flat Leads
footprint 3.2X1.6X1.1 (SMT LED; 2 Flat Leads)
simulation model LED2 (Diode)
pins: 1 A, 2 K

## LED2_1
designator LED?, comment LED4
Typical RED, GREEN, YELLOW, AMBER GaAs LED; Published: 8-Jun-2000; LatestRevisionDate: 17-Jul-2002; LatestRevisionNote: Re-released for DXP Platform.; PackageVersion: Feb-2002; PackageReference: 3.2X1.6X1.1; Publisher: Altium Limited; PackageDescription: SM LED; 2 Flat Leads
footprint 3.2X1.6X1.1 (SMT LED; 2 Flat Leads)
simulation model LED2 (Diode)
pins: 1 A, 2 K

## LED2_2
designator LED?, comment LED2
Typical RED, GREEN, YELLOW, AMBER GaAs LED; Published: 8-Jun-2000; LatestRevisionDate: 17-Jul-2002; LatestRevisionNote: Re-released for DXP Platform.; PackageVersion: Feb-2002; PackageReference: 3.2X1.6X1.1; Publisher: Altium Limited; PackageDescription: SM LED; 2 Flat Leads
footprint 3.2X1.6X1.1 (SMT LED; 2 Flat Leads)
simulation model LED2 (Diode)
pins: 1 A, 2 K

## PinHeader1x5
designator J_ICSP?  (value not drawn)
Plug connector; Value: *
footprint PinHeader1x5 P2.54 (Plug connector)
footprint PinHeader1x5 P2.54 A (Plug connector)
footprint PinHeader1x5 P2.54 Right Angle (Plug connector)
footprint PinHeader1x5 P1.27 (Plug connector)
footprint HDR1X5 (Connector; Header; 5 Position)
pins: 1, 2, 3, 4, 5

## Res1
designator R_LED_?  value 1K
Resistor; Published: 8-Jun-2000; LatestRevisionDate: 17-Jul-2002; LatestRevisionNote: Re-released for DXP Platform.; PackageReference: AXIAL-0.3; Publisher: Altium Limited; PackageDescription: Axial Device, Thru-Hole; 2 Leads; 0.3 in Pin Spacing
footprint AXIAL-0.3 (Axial Device, Thru-Hole; 2 Leads; 0.3 in Pin Spacing)
simulation model RESISTOR (Resistor)
signal-integrity model Res
pins: 1, 2

## TitleBlock
designator *  (value not drawn)  (graphical)
Title Block with generall information
text: Title; Project; Size; Revision; File Name; Last updated; Designers; Page; of; EPFL Spacecraft Team / EPFL Space Center / PPH335 station 13 / CH-1015 Lausanne